# Altium footprint library Lib Pcb.PcbLib: 84 footprints (part 5 of 6)
Each footprint in its own frame and in the unit in brackets; x right, y up, seen from the top. Pads: shape width x height; smd on the part's side, far side on the other; paste and mask are expansions set on the pad; w line width, h text height; cw(c..) or ccw(c..) is an arc to the next point about the centre after c.
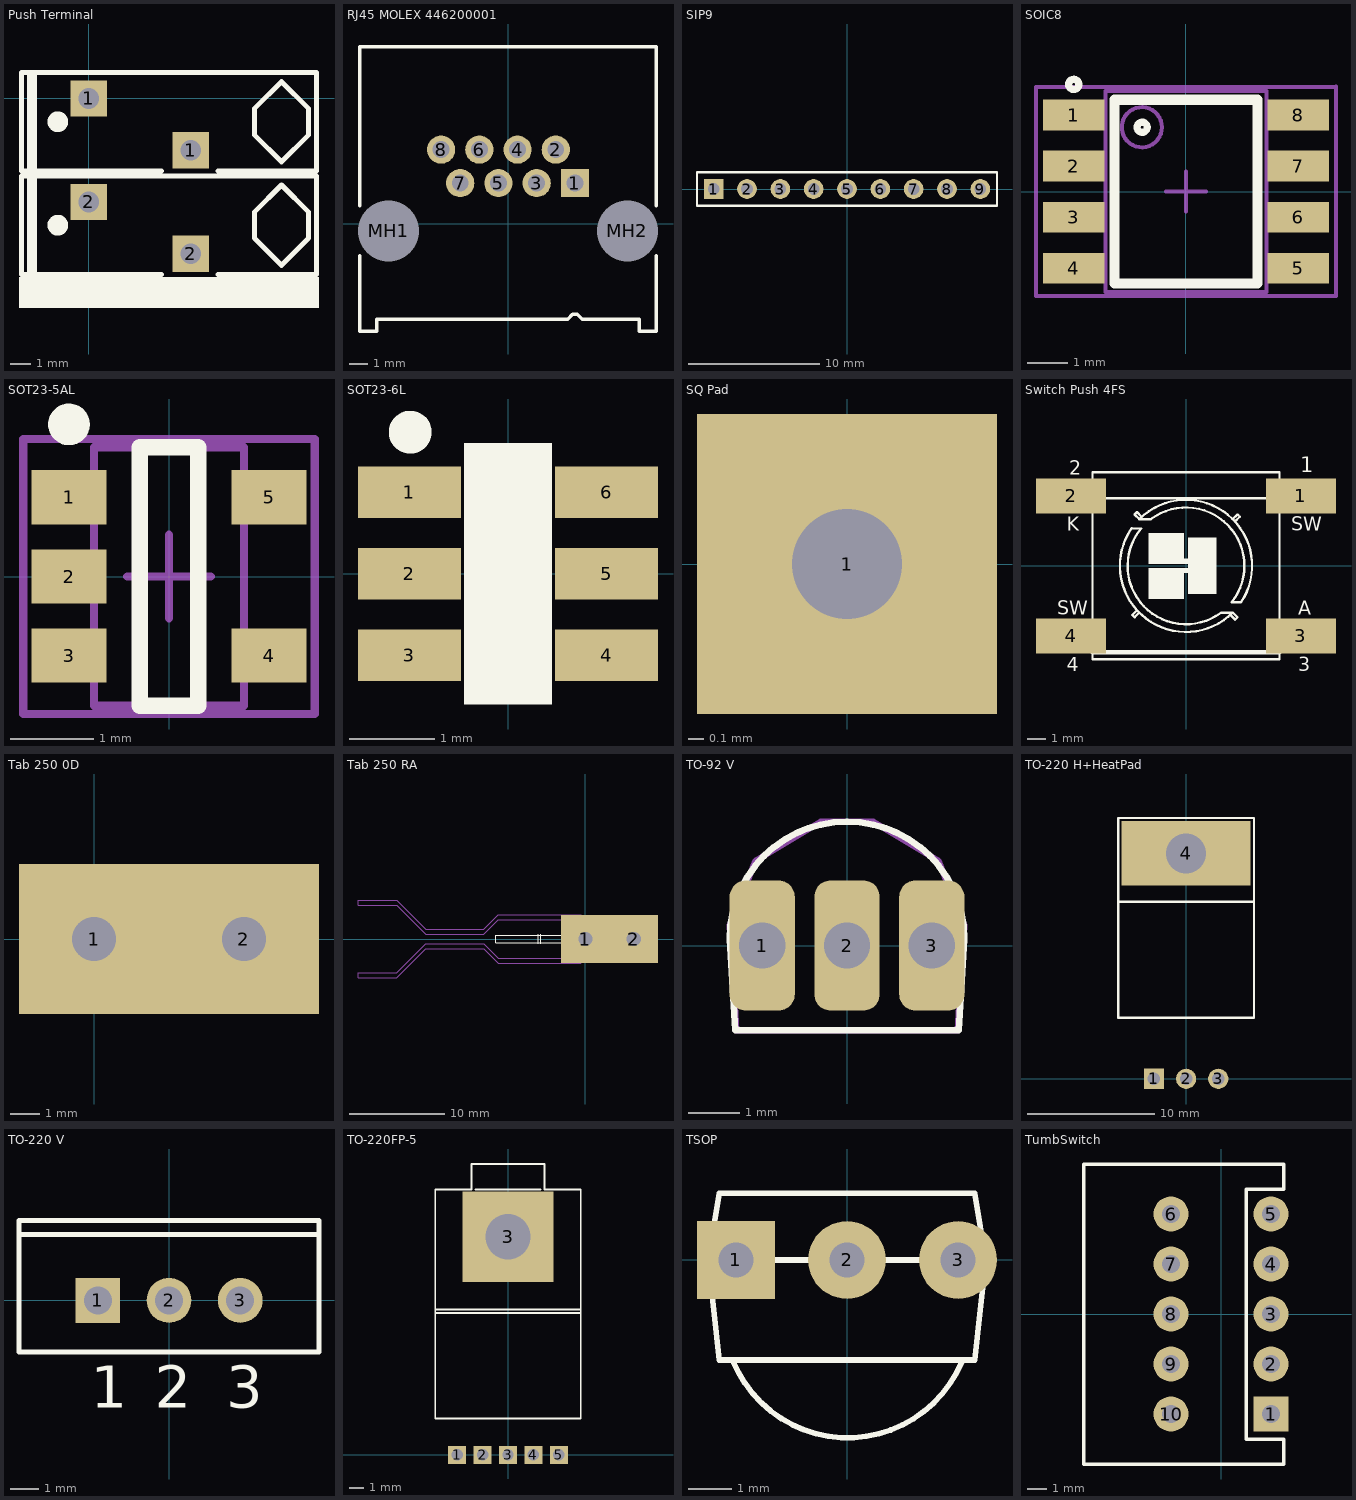
[diagram p4: the footprints below, top view; thin cyan lines are the x and y axes]

## Push Terminal [mil]
height 600
pads (4):
  rect 70x70 hole 40: 1(0,0) 1(197,-100) 2(197,-300)
  rect 70x70 hole 40 paste+0: 2(0,-200)
Top Overlay:
  circle w20: c-60,-45 r10
  circle w20: c-60,-245 r10
  rectangle: -135,-405 445,-345
  rectangle: -120,-145 -100,55
  rectangle: -120,-345 -100,-145
  lines w10: 140,-340 -130,-340 -130,-150 440,-150 440,-340 250,-340 ; 140,-140 -130,-140 -130,50 440,50 440,-140 250,-140 ; 320,-270 372.5,-322.5 425,-270 425,-245 425,-220 372.5,-167.5 320,-220 320,-245 320,-270 ; 320,-70 320,-20 372.5,32.5 425,-20 425,-45 425,-70 372.5,-122.5 320,-70

## RJ45 MOLEX 446200001 [mm] "RJ45 RA TH"
height 7.62
pads (10):
  rect 1.5x1.5 hole 0.9: 1(3.556,2.155)
  round 1.5 hole 0.9: 2(2.54,3.933) 3(1.524,2.155) 4(0.508,3.933) 5(-0.508,2.155) 6(-1.524,3.933) 7(-2.54,2.155) 8(-3.556,3.933)
  round 2.95 hole 3.25 unplated: MH1(-6.35,-0.385) MH2(6.35,-0.385)
Top Overlay:
  lines w0.178: -7.875,-1.717 -7.875,-5.715 -6.985,-5.715 -6.985,-5.08 3.175,-5.08 3.429,-4.826 3.683,-4.826 3.937,-5.08 6.985,-5.08 6.985,-5.715 7.875,-5.715 7.875,-1.717 ; -7.875,0.947 -7.875,9.395 7.875,9.395 7.875,0.947
3D body: height 10.16, standoff 2.9, extent -6.985,-5.715 6.985,-5.08
3D body: height 12.19, standoff 2.9, extent -3.175,-5.715 3.175,-5.08
3D body: height 2.9, standoff 1.52, extent 3.302,-5.842 3.81,-5.715
3D body: height 11.18, standoff 2.9, extent -3.81,-5.715 3.81,-5.08
3D body: height 13.21, standoff 0.25, extent -7.874,-5.588 7.874,9.398

## SIP9 [mm] "SIP9"
height 3.81
pads (9):
  rect 1.5x1.5 hole 0.9: 1(-10.16,0)
  round 1.5 hole 0.9: 2(-7.62,0) 3(-5.08,0) 4(-2.54,0) 5(0,0) 6(2.54,0) 7(5.08,0) 8(7.62,0) 9(10.16,0)
Top Overlay:
  lines w0.178: -11.43,-1.27 -11.43,1.27 11.43,1.27 11.43,-1.27 -11.43,-1.27
3D body: height 8, standoff 7.24, extent -10.537,-0.379 -9.779,0.379
3D body: height 7.62, standoff 0.25, extent -11.43,-1.27 11.43,1.27
3D body: height 0.25, standoff -0.76, extent -10.538,-0.38 -9.779,0.38
3D body: height 0.25, standoff -0.76, extent -7.998,-0.38 -7.239,0.38
3D body: height 0.25, standoff -0.76, extent -5.458,-0.38 -4.699,0.38
3D body: height 0.25, standoff -0.76, extent -2.918,-0.38 -2.159,0.38
3D body: height 0.25, standoff -0.76, extent -0.378,-0.38 0.381,0.38
3D body: height 0.25, standoff -0.76, extent 2.162,-0.38 2.921,0.38
3D body: height 0.25, standoff -0.76, extent 4.702,-0.38 5.461,0.38
3D body: height 0.25, standoff -0.76, extent 7.242,-0.38 8.001,0.38
3D body: height 0.25, standoff -0.76, extent 9.782,-0.38 10.541,0.38

## SOIC8 [mil]
pads (8):
  rect 60x30 smd: 1(-110,75) 2(-110,25) 3(-110,-25) 4(-110,-75) 5(110,-75) 6(110,-25) 7(110,25) 8(110,75)
Top Overlay:
  circle w7: c-43,63 r5
  circle w7: c-110,105 r5
  lines w10: -70,-90 -70,90 70,90 70,-90 -70,-90
Mechanical 13:
  circle w3.94: c-43.31,62.99 r19.68
  lines w3.94: -78.74,-98.43 78.74,-98.43 78.74,98.43 -78.74,98.43 -78.74,-98.43
Mechanical 15:
  lines w3.94: -19.69,0 19.68,0 ; 0,-19.68 0,19.68 ; 147,-102.36 -147,-102.36 -147,102.36 147,102.36 ; 147,-101.72 147,103
3D body: height 68.9, standoff 0, extent -78.74,-98.43 78.74,98.43

## SOT23-5AL [mm] "SOT23, 5-Leads, Body 2.9x1.6mm, Pitch 0.95mm, Lead Span 2.8mm, IPC High Density"
height 1.45
pads (5):
  rect 0.9x0.65 smd: 1(-1.2,0.95) 2(-1.2,0) 3(-1.2,-0.95) 4(1.2,-0.95) 5(1.2,0.95)
Top Overlay:
  circle w0.25: c-1.2,1.825 r0.125
  lines w0.2: -0.35,-1.55 -0.35,1.55 0.35,1.55 0.35,-1.55 -0.35,-1.55
Mechanical 13:
  lines w0.1: -0.9,-1.55 0.9,-1.55 0.9,1.55 -0.9,1.55 -0.9,-1.55
Mechanical 15:
  lines w0.1: -0.5,0 0.5,0 ; 0,-0.5 0,0.5 ; -1.75,-1.65 1.75,-1.65 1.75,1.65 -1.75,1.65 -1.75,-1.65
3D body: height 1.45, standoff 0, extent -0.9,-1.55 0.9,1.55

## SOT23-6L [mm] "SOT23-6L"
height 0.025
pads (6):
  rect 1.2x0.6 smd: 1(-1.15,0.95) 2(-1.15,0) 3(-1.15,-0.95) 4(1.15,-0.95) 5(1.15,0) 6(1.15,0.95)
Top Overlay:
  circle w0.25: c-1.141,1.651 r0.125
  region: -0.508,1.524 0.508,1.524 0.508,-1.524 -0.508,-1.524
3D body: height 1.01, standoff 1, extent -0.833,1.07 -0.435,1.47
3D body: height 1, standoff 0.25, extent -0.889,-1.524 0.889,1.524

## SQ Pad [mil] "Pad"
pads (1):
  rect 75x75 hole 27.6: 1(0,0)

## Switch Push 4FS [mil] "Unimec Switch Push 4FS"
height 400
pads (4):
  rect 150x75 smd: 1(246,150) 2(-246,150) 3(246,-150) 4(-246,-150)
Top Overlay:
  region: 5,-5 -80,-5 -80,-70 -5,-70 -5,-15 5,-15
  region: 5,5 -80,5 -80,70 -5,70 -5,15 5,15
  region: 5,60 65,60 65,-60 5,-60
  lines w5: -200,145 200,145 ; -116.37,80.36 ccw(c0,0) 100,-100 ; -115.85,80 -95.61,80 ; -105,-95 -115,-105 -110,-110 -100,-100 ; -96.43,79.53 ccw(c0,0) 75,-100 100,-100 ; -95,105 -105,115 -110,110 -100,100 ; 95,-105 105,-115 110,-110 100,-100 ; 100,100 110,110 115,105 105,95 ; 117.67,-78.09 97.61,-78.09 ccw(c0,0) -75,100 -100,100 ; 117.84,-78.2 ccw(c0,0) -100,100 ; -200,-200 200,-200 200,200 -200,200 -200,-200
  lines w10: -200,-185 200,-185
  text "SW" at -275,-105 h30
  text "SW" at 225,75 h30
  text "3" at 240,-225 h30
  text "K" at -255,75 h30
  text "A" at 240,-105 h30
  text "4" at -255,-225 h30
  text "2" at -250,195 h30
  text "1" at 245,200 h33
3D body: height 400, standoff 250, extent -124.01,-124.75 125,124.76
3D body: height 250, standoff 5, extent -200,-200 200,200

## Tab 250 0D [mil] "Tab 250 0D Keystone 1287-ST"
height 402
pads (2):
  rect 200x200 hole 59.1: 1(0,0) 2(200,0)
Top Overlay:
  lines w5: -25,-15 -25,15 ; 225,-15 225,15 ; -55,-15 -55,15 255,15 255,-15 -55,-15
3D body: height 260, standoff 190, extent 66,-16 134,16
3D body: height 90, standoff 5, extent 225,-15 255,15
3D body: height 90, standoff 5, extent -55,-15 -25,15
3D body: height 402, standoff 5, extent -25,-15 225,15
3D body: height 90, standoff 5, extent 40,16 100,60
3D body: height 90, standoff 5, extent 100,-60 160,-16

## Tab 250 RA [mil] "Tab 250 RA KeyStone 4966"
height 350
pads (2):
  rect 200x200 hole 59.1: 1(0,0) 2(200,0)
Top Overlay:
  lines w5: -195,-20 -195,20 ; -185,-20 -185,20 ; -60,-25 -60,25 ; -370,-15 230,-15 230,15 -370,15 -370,-15
Mechanical 3:
  lines w5: -940,-160 -780,-160 -660,-40 -420,-40 -360,-100 -20,-100 0,-80 -360,-80 -420,-20 -660,-20 -780,-140 -940,-140 -940,-160 ; -940,140 -940,160 -780,160 -660,40 -420,40 -360,100 -20,100 0,80 -360,80 -420,20 -660,20 -780,140 -940,140
3D body: height 340, standoff 90, extent -370,-15 -60,15
3D body: height 340, standoff 5, extent -60,-15 230,15
3D body: height 250, standoff 180, extent -200,-16 -180,16
3D body: height 225, standoff 205, extent -225,-16 -155,16
3D body: height 425, standoff 25, extent -480,-100 0,100
3D body: height 300, standoff 150, extent -700,-80 -400,80
3D body: height 390, standoff 60, extent -940,-160 -620,160

## TO-92 V [mil] "TO-92 V"
height 200
pads (3):
  rrect50% 50x100 hole 35.4: 1(-65,0) 2(0,0) 3(65,0)
Top Overlay:
  lines w5: -90,5 cw(c0,5) 90,5 85.62,-65 -85.62,-65 -90,5
Mechanical 1:
  lines w5: 0,95 -20,95 -70,65 -90,15 -85,-65 85,-65 90,15 70,65 20,95 ; 0,95 20,95 ; 0,95 20,95
3D body: height 50, standoff -30, extent 55,-10 75,10
3D body: height 50, standoff -30, extent -10,-10 10,10
3D body: height 50, standoff -30, extent -75,-10 -55,10
3D body: height 150, standoff 50, extent -90,-65 90,95

## TO-220 H+HeatPad [mm] "T0-220 H+HeatPad"
height 5.08
pads (4):
  rect 1.6x1.6 hole 1: 1(-2.54,0)
  round 1.6 hole 1: 2(0,0) 3(2.54,0)
  rect 10.16x5.08 hole 3.175: 4(0,17.78)
Top Overlay:
  lines w0.178: -5.366,13.97 5.334,13.97 ; -5.35,4.826 5.35,4.826 5.35,20.574 -5.35,20.574 -5.35,4.826
3D body: height 1.78, standoff -0.76, extent -1.562,16.208 1.575,19.352
3D body: height 1.91, standoff -0.64, extent 2.162,-0.38 2.921,0.38
3D body: height 1.91, standoff -0.64, extent -0.378,-0.38 0.381,0.38
3D body: height 1.91, standoff -0.64, extent -2.918,-0.38 -2.159,0.38
3D body: height 4.44, standoff 1.27, extent -5.08,5.08 5.08,13.97
3D body: height 1.27, standoff 0, extent -5.08,5.08 5.08,20.32
3D body: height 2.54, standoff 1.78, extent -2.921,-0.508 -2.159,5.08
3D body: height 2.54, standoff 1.78, extent -0.381,-0.508 0.381,5.08
3D body: height 2.54, standoff 1.78, extent 2.159,-0.508 2.921,5.08

## TO-220 V [mm] "T0-220 V"
height 10.16
pads (3):
  rect 1.6x1.6 hole 1: 1(-2.54,0)
  round 1.6 hole 1: 2(0,0) 3(2.54,0)
Top Overlay:
  lines w0.178: -5.35,2.35 5.35,2.35 ; -5.35,-1.85 5.35,-1.85 5.35,2.85 -5.35,2.85 -5.35,-1.85
  text "2" at -0.5,-3.825 h1.5
  text "1" at -2.79,-3.825 h1.5
  text "3" at 2.04,-3.825 h1.5
3D body: height 3.81, standoff -0.64, extent 2.162,-0.38 2.921,0.38
3D body: height 3.81, standoff -0.64, extent -0.378,-0.38 0.381,0.38
3D body: height 3.81, standoff -0.64, extent -2.918,-0.38 -2.159,0.38
3D body: height 12.7, standoff 3.81, extent -5.461,-1.905 5.461,2.286
3D body: height 19.05, standoff 3.81, extent -5.461,2.286 5.461,2.921

## TO-220FP-5 [mil] "TO220 Full Body"
height 180
pads (6):
  rect 50x50 hole 31.5: 1(-140,0) 2(-70,0) 3(0,0) 4(70,0) 5(140,0)
  rect 250x250 hole 125: 3(0,600)
Top Overlay:
  lines w5: -200,390 200,390 ; -200,400 200,400 ; -90,730 90,730 ; -200,100 200,100 200,730 100,730 100,800 -100,800 -100,730 -200,730 -200,100
3D body: height 180, standoff 5, extent -200,100 200,390
3D body: height 108, standoff 5, extent -200,390 200,730
3D body: height 80, standoff 5, extent -100,730 100,800
3D body: height 110, standoff 0, extent -61.51,538.13 62,661.88
3D body: height 120, standoff 100, extent -10,-10 10,100
3D body: height 110, standoff 5, extent -10,-10 10,10
3D body: height 110, standoff 5, extent -150,-10 -130,10
3D body: height 120, standoff 100, extent -150,-10 -130,100
3D body: height 110, standoff 5, extent -80,-10 -60,10
3D body: height 120, standoff 100, extent -80,-10 -60,100
3D body: height 110, standoff 5, extent 60,-10 80,10
3D body: height 120, standoff 100, extent 60,-10 80,100
3D body: height 110, standoff 5, extent 130,-10 150,10
3D body: height 120, standoff 100, extent 130,-10 150,100

## TSOP [mil] "IR Sensor"
height 324.8
pads (3):
  rect 70x70 hole 31.5: 1(-100,0)
  round 70 hole 31.5: 2(0.01,0) 3(100,0)
Top Overlay:
  lines w5: -102.44,-91 ccw(c0.56,-48.61) 103.4,-91.41 ; -124.99,0 -114.99,60 115.01,60 125.01,0 ; -124.99,0 -114.99,-90 115.01,-90 125.01,0 ; -124.99,0 -62.49,0 62.51,0 125.01,0
3D body: height 330, standoff 50, extent -124.99,-90 125.01,60
3D body: height 290, standoff 110, extent -89.61,-159.05 89.62,20.01
3D body: height 80, standoff -20, extent -114.97,-14.88 -85.03,15
3D body: height 80, standoff -20, extent -14.97,-14.88 14.97,15
3D body: height 80, standoff -20, extent 85.03,-14.88 114.97,15

## TumbSwitch [mil] "TumbSwitch"
height 850
pads (10):
  rect 70x70 hole 35.4: 1(100,-200)
  round 70 hole 35.4: 2(100,-100) 3(100,0) 4(100,100) 5(100,200) 6(-100,200) 7(-100,100) 8(-100,0) 9(-100,-100) 10(-100,-200)
Top Overlay:
  lines w7: -275,-300 125,-300 125,-250 50,-250 50,250 125,250 125,300 -275,300 -275,-300
3D body: height 850, standoff 800, extent 0,-275 50,-175
3D body: height 850, standoff 800, extent -200,-275 -150,-175
3D body: height 850, standoff 800, extent 0,175 50,275
3D body: height 850, standoff 800, extent -200,175 -150,275
3D body: height 805, standoff 800, extent -25,-150 75,150
3D body: height 805, standoff 800, extent -225,-150 -125,150
3D body: height 800, standoff 50, extent -275,-300 125,300